# Altium schematic symbol library Aptina.SchLib: 1 symbol
Pins are listed as number, name and electrical type; pins without a type are passive.

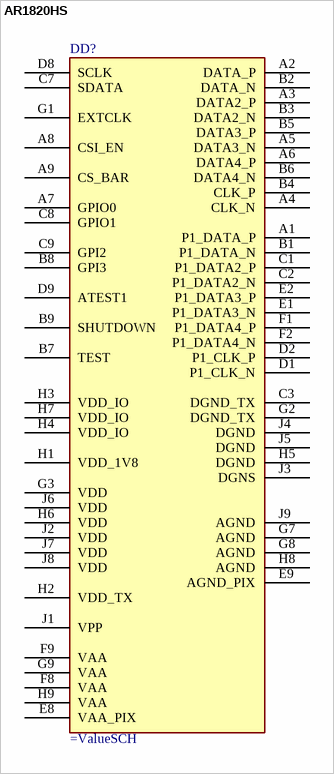
[diagram p0: symbol AR1820HS]

## AR1820HS
designator DD?
pins: A1 P1_DATA_P, A2 DATA_P, A3 DATA2_P, A4 CLK_N, A5 DATA3_N, A6 DATA4_P, A7 GPIO0, A8 CSI_EN, A9 CS_BAR, B1 P1_DATA_N, B2 DATA_N, B3 DATA2_N, B4 CLK_P, B5 DATA3_P, B6 DATA4_N, B7 TEST, B8 GPI3, B9 SHUTDOWN, C1 P1_DATA2_P, C2 P1_DATA2_N, C3 DGND_TX, C7 SDATA, C8 GPIO1, C9 GPI2, D1 P1_CLK_N, D2 P1_CLK_P, D8 SCLK, D9 ATEST1, E1 P1_DATA3_N, E2 P1_DATA3_P, E8 VAA_PIX, E9 AGND_PIX, F1 P1_DATA4_P, F2 P1_DATA4_N, F8 VAA, F9 VAA, G1 EXTCLK, G2 DGND_TX, G3 VDD, G7 AGND, G8 AGND, G9 VAA, H1 VDD_1V8, H2 VDD_TX, H3 VDD_IO, H4 VDD_IO, H5 DGND, H6 VDD, H7 VDD_IO, H8 AGND, H9 VAA, J1 VPP, J2 VDD, J3 DGNS, J4 DGND, J5 DGND, J6 VDD, J7 VDD, J8 VDD, J9 AGND